# EAGLE library part SN74LVC07AD (library SN74LVC07AD)
Check availability <https://pricing.snapeda.com/parts/SN74LVC07AD/Texas%20Instruments/view-part?ref=eda>
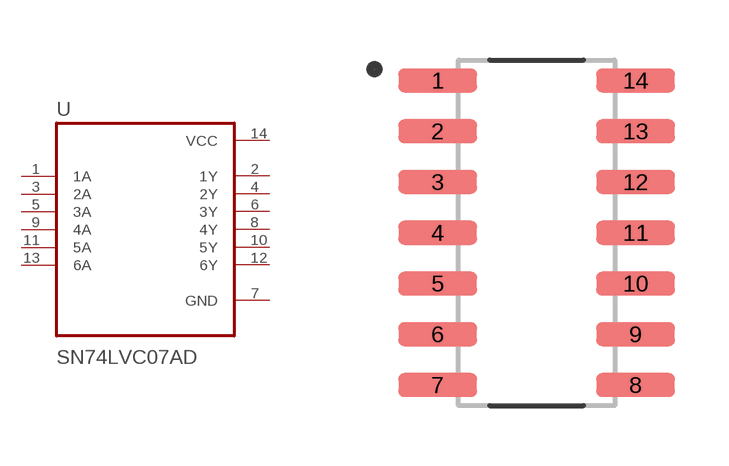
[diagram p0: symbol with the pads of SOIC127P600X175-14N; footprint SOIC127P600X175-14N]

Designator prefix U

## SN74LVC07AD (Availability: In Stock; Description: 6-ch, 1.65-V to 5.5-V buffers with open-drain outputs; MF: Texas Instruments; MP: SN74LVC07AD; Package: SOIC-14 Texas Instruments; Price: None; Purchase-URL: https://pricing.snapeda.com/search/part/SN74LVC07AD/?ref=eda)  [SOIC127P600X175-14N]
1  1A  in
2  1Y  out
3  2A  in
4  2Y  out
5  3A  in
6  3Y  out
7  GND  pwr
8  4Y  out
9  4A  in
10  5Y  out
11  5A  in
12  6Y  out
13  6A  in
14  VCC  pwr

## Footprint SOIC127P600X175-14N (pad centres in mm)
smd 1.97 x 0.6: 1 -2.475,3.81; 2 -2.475,2.54; 3 -2.475,1.27; 4 -2.475,0; 5 -2.475,-1.27; 6 -2.475,-2.54; 7 -2.475,-3.81; 8 2.475,-3.81; 9 2.475,-2.54; 10 2.475,-1.27; 11 2.475,0; 12 2.475,1.27; 13 2.475,2.54; 14 2.475,3.81